# EAGLE library part BLUE_PILL (library BluePill)
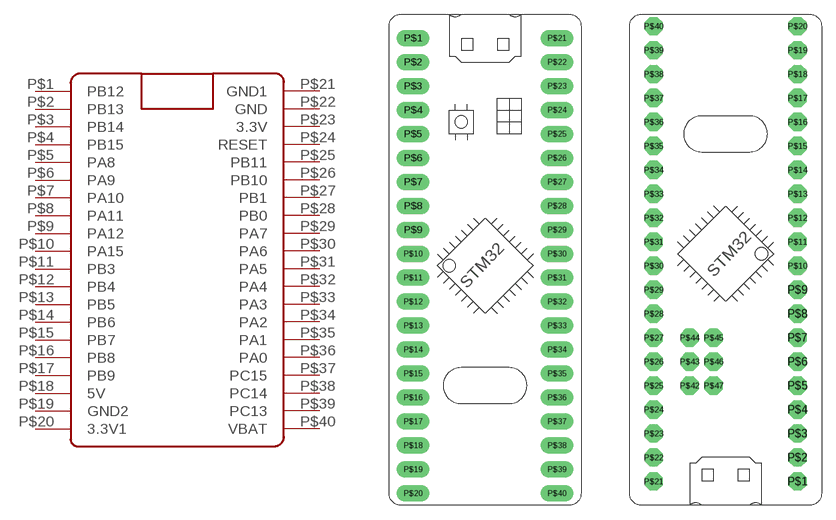
[diagram p0: symbol with the pads of BLUE_PILL; footprints BLUE_PILL, BLUE_PILL_ADV]

Designator prefix -

## BLUE_PILL  [BLUE_PILL]
P$1  PB12
P$2  PB13
P$3  PB14
P$4  PB15
P$5  PA8
P$6  PA9
P$7  PA10
P$8  PA11
P$9  PA12
P$10  PA15
P$11  PB3
P$12  PB4
P$13  PB5
P$14  PB6
P$15  PB7
P$16  PB8
P$17  PB9
P$18  5V
P$19  GND2
P$20  3.3V1
P$21  GND1  pwr
P$22  GND
P$23  3.3V
P$24  RESET
P$25  PB11
P$26  PB10
P$27  PB1
P$28  PB0
P$29  PA7
P$30  PA6
P$31  PA5
P$32  PA4
P$33  PA3
P$34  PA2
P$35  PA1
P$36  PA0
P$37  PC15
P$38  PC14
P$39  PC13
P$40  VBAT

## BLUE_PILLADVANCED  [BLUE_PILL_ADV]
Pads as for BLUE_PILL

## Footprint BLUE_PILL (pad centres in mm)
drill 0.8 pad 1.75 long: P$1 -7.62,15.24; P$2 -7.62,12.7; P$3 -7.62,10.16; P$4 -7.62,7.62; P$5 -7.62,5.08; P$6 -7.62,2.54; P$7 -7.62,0; P$8 -7.62,-2.54; P$9 -7.62,-5.08; P$10 -7.62,-7.62; P$11 -7.62,-10.16; P$12 -7.62,-12.7; P$13 -7.62,-15.24; P$14 -7.62,-17.78; P$15 -7.62,-20.32; P$16 -7.62,-22.86; P$17 -7.62,-25.4; P$18 -7.62,-27.94; P$19 -7.62,-30.48; P$20 -7.62,-33.02; P$21 7.62,15.24; P$22 7.62,12.7; P$23 7.62,10.16; P$24 7.62,7.62; P$25 7.62,5.08; P$26 7.62,2.54; P$27 7.62,0; P$28 7.62,-2.54; P$29 7.62,-5.08; P$30 7.62,-7.62; P$31 7.62,-10.16; P$32 7.62,-12.7; P$33 7.62,-15.24; P$34 7.62,-17.78; P$35 7.62,-20.32; P$36 7.62,-22.86; P$37 7.62,-25.4; P$38 7.62,-27.94; P$39 7.62,-30.48; P$40 7.62,-33.02

## Footprint BLUE_PILL_ADV (pad centres in mm)
drill 0.8 pad 1.93 octagon: P$1 10.16,-30.48; P$2 10.16,-27.94; P$3 10.16,-25.4; P$4 10.16,-22.86; P$5 10.16,-20.32; P$6 10.16,-17.78; P$7 10.16,-15.24; P$8 10.16,-12.7; P$9 10.16,-10.16; P$10 10.16,-7.62; P$11 10.16,-5.08; P$12 10.16,-2.54; P$13 10.16,0; P$14 10.16,2.54; P$15 10.16,5.08; P$16 10.16,7.62; P$17 10.16,10.16; P$18 10.16,12.7; P$19 10.16,15.24; P$20 10.16,17.78; P$21 -5.08,-30.48; P$22 -5.08,-27.94; P$23 -5.08,-25.4; P$24 -5.08,-22.86; P$25 -5.08,-20.32; P$26 -5.08,-17.78; P$27 -5.08,-15.24; P$28 -5.08,-12.7; P$29 -5.08,-10.16; P$30 -5.08,-7.62; P$31 -5.08,-5.08; P$32 -5.08,-2.54; P$33 -5.08,0; P$34 -5.08,2.54; P$35 -5.08,5.08; P$36 -5.08,7.62; P$37 -5.08,10.16; P$38 -5.08,12.7; P$39 -5.08,15.24; P$40 -5.08,17.78
drill 1.1 pad 1.93 octagon: P$42 -1.27,-20.32; P$43 -1.27,-17.78; P$44 -1.27,-15.24; P$45 1.27,-15.24; P$46 1.27,-17.78; P$47 1.27,-20.32